# EAGLE library part MH_06X01A (library Parts)
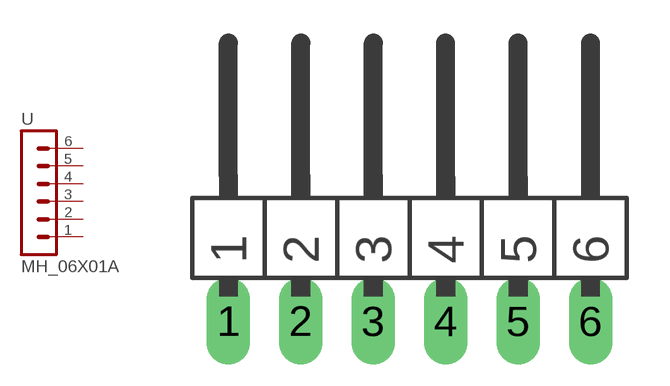
[diagram p6: symbol with the pads of MH_06X01A; footprint MH_06X01A]

Designator prefix -

## MH_06X01A  [MH_06X01A]
1  1  pas
2  2  pas
3  3  pas
4  4  pas
5  5  pas
6  6  pas

## Footprint MH_06X01A (pad centres in mm)
PIN HEADER
drill 1.016 long: 1 -8.89,0; 2 -6.35,0; 3 -3.81,0; 4 -1.27,0; 5 1.27,0; 6 3.81,0